# EAGLE library part AT91R4008 (library atmega-atxmega)
AT91 ARM® Thumb® RISC-Controller Microcontroller AT91R40008
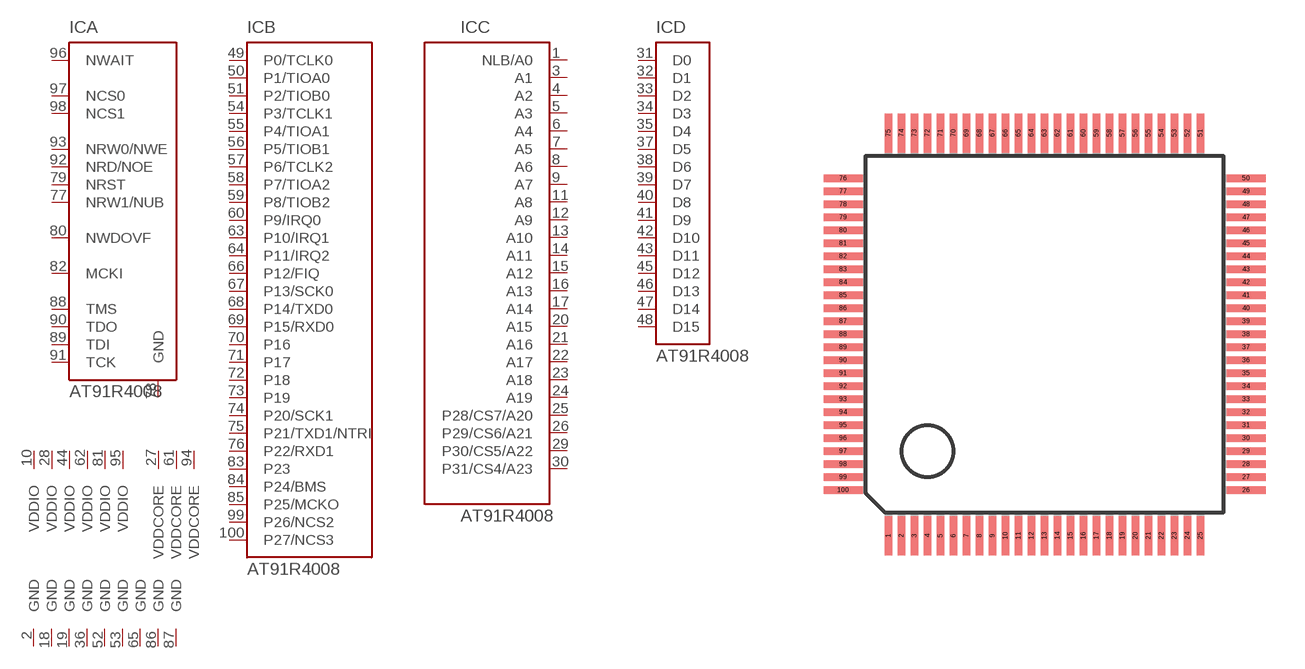
[diagram p36: symbol with the pads of TQFP100; footprint TQFP100]

Designator prefix IC; gates A=AT91R4008 B=AT91R4008-PARPORT C=AT91R4008-ADR D=D0-15 P1=GND P2=GND P3=GND P4=GND P5=GND P15=VDDIO P16=VDDIO P17=VDDIO P6=GND P7=GND P8=GND P9=GND P10=VDDIO P11=VDDIO P12=VDDCORE P13=VDDCORE P14=VDDCORE P18=VDDIO

## AT91R4008 (OC_FARNELL: unknown; OC_NEWARK: unknown)  [TQFP100]
1  C:NLB/A0  out
2  P1:GND  pwr
3  C:A1  out
4  C:A2  out
5  C:A3  out
6  C:A4  out
7  C:A5  out
8  C:A6  out
9  C:A7  out
10  P15:VDDIO  pwr
11  C:A8  out
12  C:A9  out
13  C:A10  out
14  C:A11  out
15  C:A12  out
16  C:A13  out
17  C:A14  out
18  P2:GND  pwr
19  P3:GND  pwr
20  C:A15  out
21  C:A16  out
22  C:A17  out
23  C:A18  out
24  C:A19  out
25  C:P28/CS7/A20  out
26  C:P29/CS6/A21  out
27  P12:VDDCORE  pwr
28  P16:VDDIO  pwr
29  C:P30/CS5/A22  out
30  C:P31/CS4/A23  out
31  D:D0  hiz
32  D:D1  hiz
33  D:D2  hiz
34  D:D3  hiz
35  D:D4  hiz
36  P4:GND  pwr
37  D:D5  hiz
38  D:D6  hiz
39  D:D7  hiz
40  D:D8  hiz
41  D:D9  hiz
42  D:D10  hiz
43  D:D11  hiz
44  P17:VDDIO  pwr
45  D:D12  hiz
46  D:D13  hiz
47  D:D14  hiz
48  D:D15  hiz
49  B:P0/TCLK0
50  B:P1/TIOA0
51  B:P2/TIOB0
52  P5:GND  pwr
53  P6:GND  pwr
54  B:P3/TCLK1
55  B:P4/TIOA1
56  B:P5/TIOB1
57  B:P6/TCLK2
58  B:P7/TIOA2
59  B:P8/TIOB2
60  B:P9/IRQ0
61  P13:VDDCORE  pwr
62  P10:VDDIO  pwr
63  B:P10/IRQ1
64  B:P11/IRQ2
65  P7:GND  pwr
66  B:P12/FIQ
67  B:P13/SCK0
68  B:P14/TXD0
69  B:P15/RXD0
70  B:P16
71  B:P17
72  B:P18
73  B:P19
74  B:P20/SCK1
75  B:P21/TXD1/NTRI
76  B:P22/RXD1
77  A:NRW1/NUB  out
78  A:GND  pwr
79  A:NRST  out
80  A:NWDOVF  out
81  P11:VDDIO  pwr
82  A:MCKI  in
83  B:P23
84  B:P24/BMS
85  B:P25/MCKO
86  P8:GND  pwr
87  P9:GND  pwr
88  A:TMS  in
89  A:TDI  in
90  A:TDO  out
91  A:TCK  in
92  A:NRD/NOE  out
93  A:NRW0/NWE  out
94  P14:VDDCORE  pwr
95  P18:VDDIO  pwr
96  A:NWAIT  in
97  A:NCS0  out
98  A:NCS1  out
99  B:P26/NCS2
100  B:P27/NCS3

## Footprint TQFP100 (pad centres in mm)
Thin Quad Flat Pack
smd 0.27 x 1.5: 1 -6,-7.75; 2 -5.5,-7.75; 3 -5,-7.75; 4 -4.5,-7.75; 5 -4,-7.75; 6 -3.5,-7.75; 7 -3,-7.75; 8 -2.5,-7.75; 9 -2,-7.75; 10 -1.5,-7.75; 11 -1,-7.75; 12 -0.5,-7.75; 13 0,-7.75; 14 0.5,-7.75; 15 1,-7.75; 16 1.5,-7.75; 17 2,-7.75; 18 2.5,-7.75; 19 3,-7.75; 20 3.5,-7.75; 21 4,-7.75; 22 4.5,-7.75; 23 5,-7.75; 24 5.5,-7.75; 25 6,-7.75; 51 6,7.75; 52 5.5,7.75; 53 5,7.75; 54 4.5,7.75; 55 4,7.75; 56 3.5,7.75; 57 3,7.75; 58 2.5,7.75; 59 2,7.75; 60 1.5,7.75; 61 1,7.75; 62 0.5,7.75; 63 0,7.75; 64 -0.5,7.75; 65 -1,7.75; 66 -1.5,7.75; 67 -2,7.75; 68 -2.5,7.75; 69 -3,7.75; 70 -3.5,7.75; 71 -4,7.75; 72 -4.5,7.75; 73 -5,7.75; 74 -5.5,7.75; 75 -6,7.75
smd 1.5 x 0.27: 26 7.75,-6; 27 7.75,-5.5; 28 7.75,-5; 29 7.75,-4.5; 30 7.75,-4; 31 7.75,-3.5; 32 7.75,-3; 33 7.75,-2.5; 34 7.75,-2; 35 7.75,-1.5; 36 7.75,-1; 37 7.75,-0.5; 38 7.75,0; 39 7.75,0.5; 40 7.75,1; 41 7.75,1.5; 42 7.75,2; 43 7.75,2.5; 44 7.75,3; 45 7.75,3.5; 46 7.75,4; 47 7.75,4.5; 48 7.75,5; 49 7.75,5.5; 50 7.75,6; 76 -7.75,6; 77 -7.75,5.5; 78 -7.75,5; 79 -7.75,4.5; 80 -7.75,4; 81 -7.75,3.5; 82 -7.75,3; 83 -7.75,2.5; 84 -7.75,2; 85 -7.75,1.5; 86 -7.75,1; 87 -7.75,0.5; 88 -7.75,0; 89 -7.75,-0.5; 90 -7.75,-1; 91 -7.75,-1.5; 92 -7.75,-2; 93 -7.75,-2.5; 94 -7.75,-3; 95 -7.75,-3.5; 96 -7.75,-4; 97 -7.75,-4.5; 98 -7.75,-5; 99 -7.75,-5.5; 100 -7.75,-6